# Altium schematic symbol library JST_B2B.SchLib: 1 symbol
Pins are listed as number, name and electrical type; pins without a type are passive.

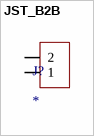
[diagram p0: symbol JST_B2B]

## JST_B2B
designator J?
footprint JST_B2B
pins: 1, 2